# EAGLE library part CHARGER-PROTECTION (library diy-edondroid)
design by edondroid
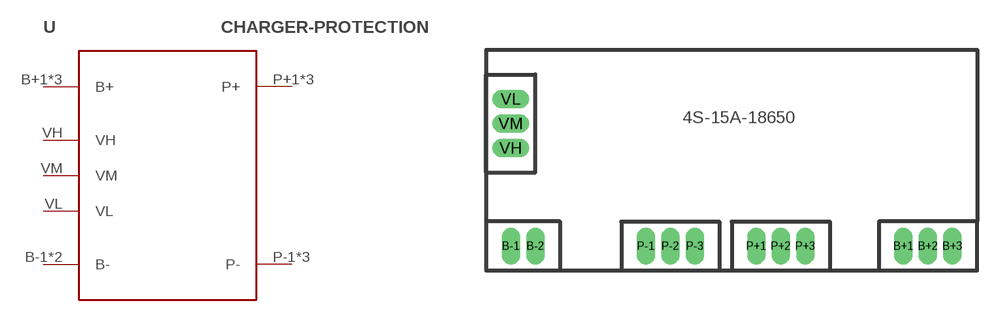
[diagram p0: symbol with the pads of 4S-15A-18650; footprint 4S-15A-18650]

Designator prefix U

## CHARGER-PROTECTION  [4S-15A-18650]
B+1  B+
B+2  B+
B+3  B+
B-1  B-
B-2  B-
P+1  P+
P+2  P+
P+3  P+
P-1  P-
P-2  P-
P-3  P-
VH  VH
VL  VL
VM  VM

## Footprint 4S-15A-18650 (pad centres in mm)
drill 1 pad 1.93 long: B+1 17.78,-8.89; B+2 20.32,-8.89; B+3 22.86,-8.89; B-1 -22.86,-8.89; B-2 -20.32,-8.89; P+1 2.54,-8.89; P+2 5.08,-8.89; P+3 7.62,-8.89; P-1 -8.89,-8.89; P-2 -6.35,-8.89; P-3 -3.81,-8.89; VH -22.86,1.27; VL -22.86,6.35; VM -22.86,3.81